# EAGLE library part 444VD21025816 (library Wurth_Switch_WS-TASL)
WS-TASL SMT Illuminated Tact Switch 6.8 x 4.5 mm Properties Base Material:LCP Base Flammability Rating:UL94 V-0 Actuator Material:LCP Actuator Flammability Rating:UL94 V-0 Contact Material:Stainless Steel Contact Plating:Silver Terminal Plating:Silver Contact Resistance:100 mΩ RISO:100 MΩ Withstanding Voltage:250 V (AC) Qty.:3000 Emitting Color:Blue & Blue; Bright Green & Bright Green; Bright Green & Red; Red & Red; Yellow & Yellow Material Properties Cover Material:LCP Electrical Properties IR 1:50 mA Mechanical Properties Operation Force:160 g General Information Operating Temperature:-40 up to +85 °C Packaging Properties Packaging :Reel in ESD Bag <https://www.we-online.com/catalog/media/o61149v209%20Family_WS_TLS_Illuminated_444xx21025816_pf2.jpg> Details see: https://www.we-online.com/catalog/en/TASL_6_8X4_5_SMD/ Updated by yingchun,Shan;2020-02-25 2020(C) Würth Elektronik
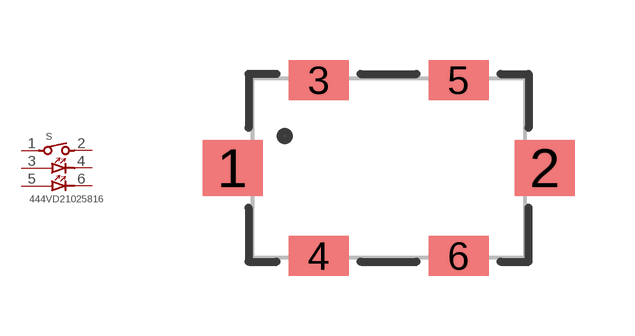
[diagram p3: symbol with the pads of WS-TASL_444XX21025816; footprint WS-TASL_444XX21025816]

Designator prefix S

## 444VD21025816 (DATASHEET-URL: https://www.we-online.com/catalog/datasheet/444VD21025816.pdf; EMITTING-COLOR: Red & Red; H: 2.5mm; PART-NUMBER: 444VD21025816)  [WS-TASL_444XX21025816]
1  1  pas
2  2  pas
3  LED1+  pas
4  LED1-  pas
5  LED2+  pas
6  LED2-  pas

## Footprint WS-TASL_444XX21025816 (pad centres in mm)
WS-TASL SMT Illuminated Tact Switch 6.8 x 4.5 mm
smd 1.5 x 1.4: 1 -3.9,0; 2 3.9,0
smd 1.5 x 1: 3 -1.75,2.2; 4 -1.75,-2.2; 5 1.75,2.2; 6 1.75,-2.2